# Altium footprint library PCB_soldeerstation.PcbLib: 39 footprints (part 1 of 3)
Each footprint in its own frame and in the unit in brackets; x right, y up, seen from the top. Pads: shape width x height; smd on the part's side, far side on the other; paste and mask are expansions set on the pad; w line width, h text height; cw(c..) or ccw(c..) is an arc to the next point about the centre after c.
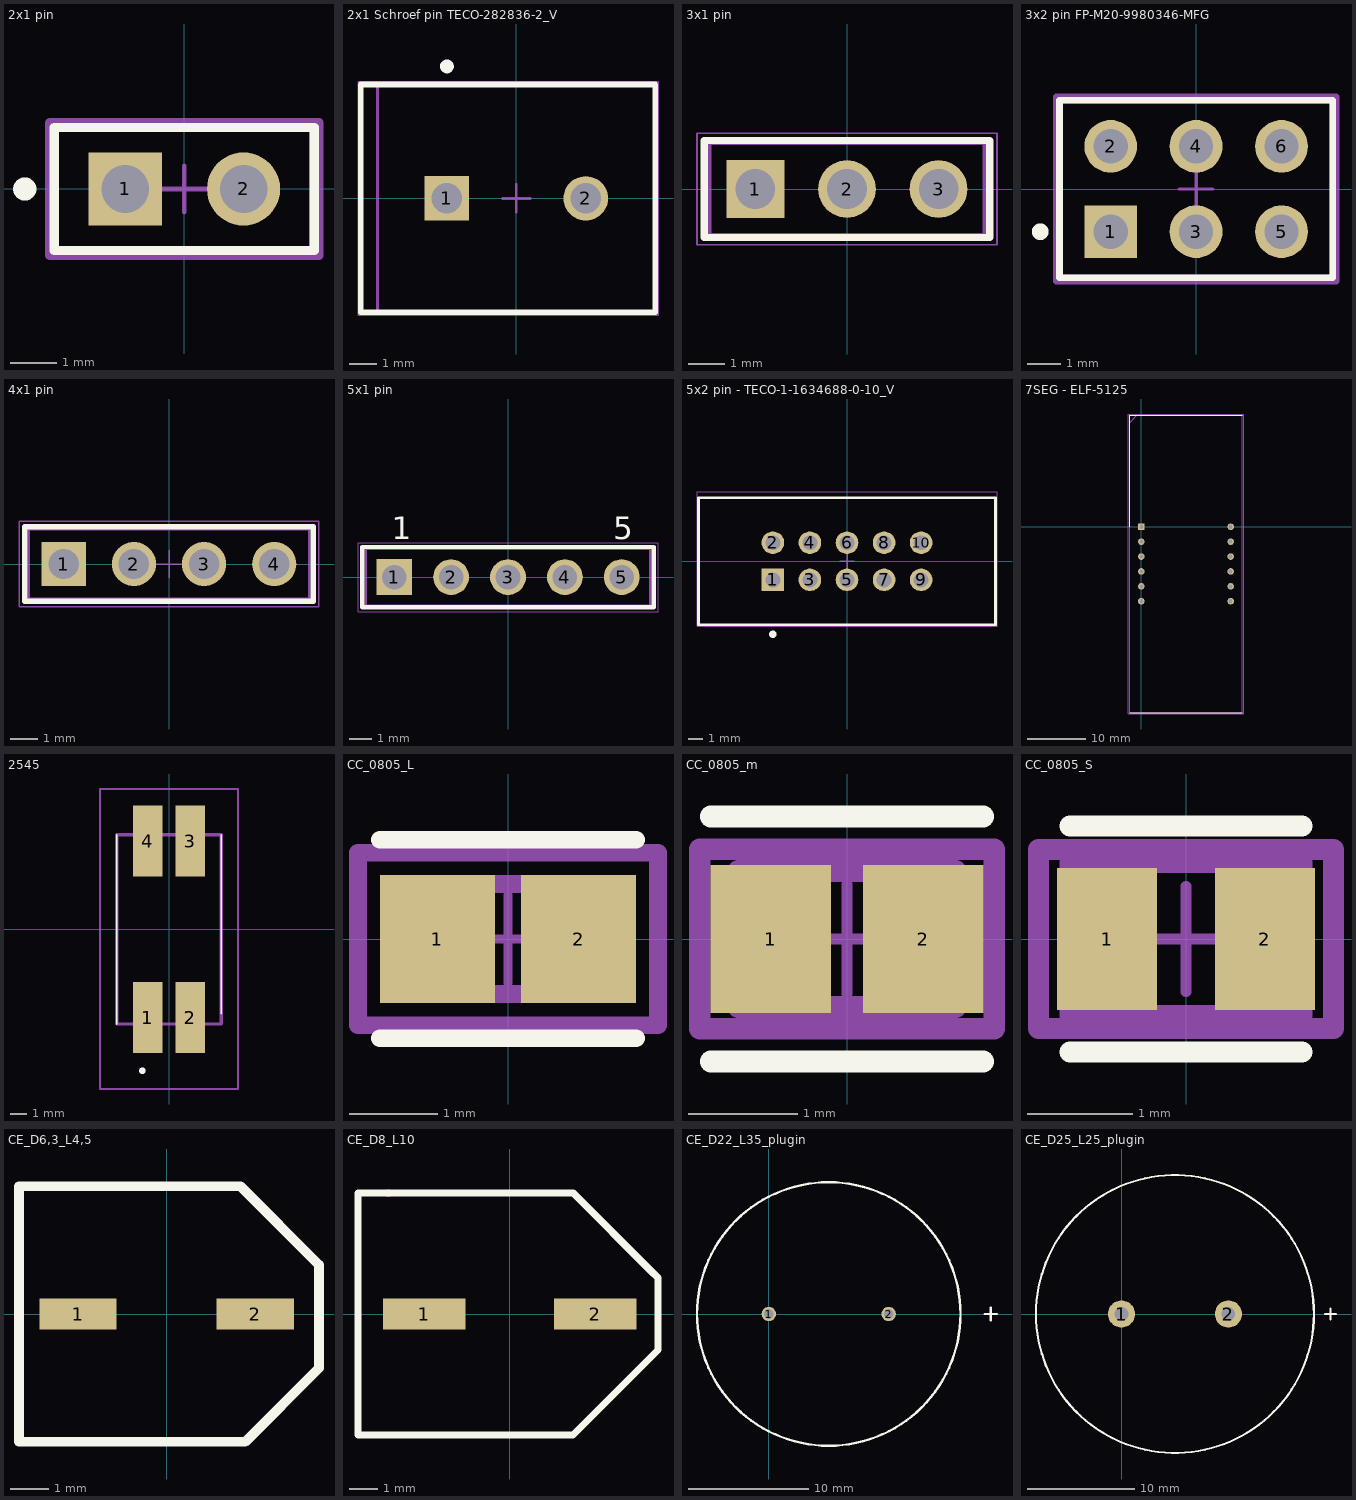
[diagram p0: the footprints below, top view; thin cyan lines are the x and y axes]

## 2x1 pin [mm]
pads (2):
  rect 1.57x1.57 hole 1.02 paste-1000 mask+0: 1(-1.27,0)
  round 1.57 hole 1.02 paste-1000 mask+0: 2(1.27,0)
Top Overlay:
  circle w0.25: c-3.425,0 r0.125
  lines w0.2: -2.79,-1.32 2.79,-1.32 2.79,1.32 -2.79,1.32 -2.79,-1.32
Top 3D Body:
  lines w0.2: -2.79,-1.32 2.79,-1.32 2.79,1.32 -2.79,1.32 -2.79,-1.32
Top Courtyard:
  lines w0.2: -2.89,-1.42 2.89,-1.42 2.89,1.42 -2.89,1.42 -2.89,-1.42
Top Assembly:
  lines w0.2: -2.89,-1.42 2.89,-1.42 2.89,1.42 -2.89,1.42 -2.89,-1.42
  text ".Designator" at 0,0.188 h1
Top Component Center:
  lines w0.1: -0.5,0 0.5,0 ; 0,-0.5 0,0.5
3D body "Conn_Harwin_M20-9990246_eec.STEP": height 0.25, standoff 0, extent -2.89,-1.42 2.89,1.42

## 2x1 Schroef pin TECO-282836-2_V [mm] "Female Header, Pitch 5mm, 1 x 2 Position, Height 10mm"
height 10
pads (2):
  rect 1.6x1.6 hole 1.1: 1(-2.5,0)
  round 1.6 hole 1.1: 2(2.5,0)
Top Overlay:
  circle w0.25: c-2.5,4.75 r0.125
  lines w0.2: -5.6,-4.1 -5.6,4.1 5,4.1 5,-4.1 -5.6,-4.1
Mechanical 13:
  lines w0.1: -5,-4.1 5,-4.1 5,4.1 -5,4.1 -5,-4.1
Mechanical 15:
  lines w0.05: -5.7,-4.2 5.1,-4.2 5.1,4.2 -5.7,4.2 -5.7,-4.2
  lines w0.1: -0.5,0 0.5,0 ; 0,-0.5 0,0.5
3D body "c-282836-2-h-3d.stp": height 10, standoff -3.5, extent -5.6,-4.1 5,4.1

## 3x1 pin [mm] "Pin Header, pitch 2.54 mm, THT, Vertical, single row, 3p"
height 8.54
pads (3):
  rect 1.6x1.6 hole 1.1: 1(-2.54,0)
  round 1.6 hole 1.1: 2(0,0) 3(2.54,0)
Top Overlay:
  lines w0.2: -3.96,-1.345 3.96,-1.345 3.96,1.345 -3.96,1.345 -3.96,-1.345
Mechanical 13:
  lines w0.1: -3.81,-1.27 -3.81,1.27 3.81,1.27 3.81,-1.27 -3.81,-1.27
Mechanical 15:
  lines w0.05: -0.5,0 0.5,0 ; 0,-0.5 0,0.5 ; -4.16,-1.545 -4.16,1.545 4.16,1.545 4.16,-1.545 -4.16,-1.545
3D body "61300311121.stp": height 8.57, standoff -2.97, extent -3.81,-1.27 3.81,1.27

## 3x2 pin FP-M20-9980346-MFG [mm]
pads (6):
  rect 1.57x1.57 hole 1.02 paste-1000 mask+0: 1(-2.54,-1.27)
  round 1.57 hole 1.02 paste-1000 mask+0: 2(-2.54,1.27) 3(0,-1.27) 4(0,1.27) 5(2.54,-1.27) 6(2.54,1.27)
Top Overlay:
  circle w0.25: c-4.635,-1.27 r0.125
  lines w0.2: -4.06,-2.64 -4.06,2.64 4.06,2.64 4.06,-2.64 -4.06,-2.64
Top 3D Body:
  lines w0.2: -4.06,-2.64 -4.06,2.64 4.06,2.64 4.06,-2.64 -4.06,-2.64
Top Courtyard:
  lines w0.2: -4.16,-2.74 -4.16,2.74 4.16,2.74 4.16,-2.74 -4.16,-2.74
Top Assembly:
  lines w0.2: -4.16,-2.74 -4.16,2.74 4.16,2.74 4.16,-2.74 -4.16,-2.74
  text ".Designator" at 0,0.188 h1
Top Component Center:
  lines w0.1: -0.5,0 0.5,0 ; 0,-0.5 0,0.5
3D body "Conn_Harwin_M20-9980346_eec.STEP": height 0.25, standoff 0, extent -4.16,-2.74 4.16,2.74

## 4x1 pin [mm] "Pin Header, pitch 2.54 mm, THT, Vertical, single row, 4p"
height 8.54
pads (4):
  rect 1.6x1.6 hole 1.1: 1(-3.81,0)
  round 1.6 hole 1.1: 2(-1.27,0) 3(1.27,0) 4(3.81,0)
Top Overlay:
  lines w0.2: -5.23,-1.345 -5.23,1.345 5.23,1.345 5.23,-1.345 -5.23,-1.345
Mechanical 13:
  lines w0.1: -5.08,-1.27 5.08,-1.27 5.08,1.27 -5.08,1.27 -5.08,-1.27
Mechanical 15:
  lines w0.05: -0.5,0 0.5,0 ; 0,-0.5 0,0.5 ; -5.43,-1.545 5.43,-1.545 5.43,1.545 -5.43,1.545 -5.43,-1.545
3D body "61300411121.stp": height 8.57, standoff -2.97, extent -5.08,-1.27 5.08,1.27

## 5x1 pin [mm] "Pin Header, pitch 2.54 mm, THT, Vertical, single row, 5p"
height 8.54
pads (5):
  rect 1.6x1.6 hole 1.1: 1(-5.08,0)
  round 1.6 hole 1.1: 2(-2.54,0) 3(0,0) 4(2.54,0) 5(5.08,0)
Top Overlay:
  lines w0.2: -6.5,-1.345 6.5,-1.345 6.5,1.345 -6.5,1.345 -6.5,-1.345
  text "1" at -5.2,1.7 h1.02
  text "5" at 4.7,1.7 h1.02
Mechanical 13:
  lines w0.1: -6.35,-1.27 -6.35,1.27 6.35,1.27 6.35,-1.27 -6.35,-1.27
Mechanical 15:
  lines w0.05: -0.5,0 0.5,0 ; 0,-0.5 0,0.5 ; -6.7,-1.545 -6.7,1.545 6.7,1.545 6.7,-1.545 -6.7,-1.545
3D body "61300511121.stp": height 8.57, standoff -2.97, extent -6.35,-1.27 6.35,1.27

## 5x2 pin - TECO-1-1634688-0-10_V [mm] "10-Pin Connector, Body 20.35x8.7mm, Pitch 2.54mm"
height 9.15
pads (10):
  rect 1.55x1.55 hole 1.02: 1(-5.08,-1.27)
  round 1.55 hole 1.02: 2(-5.08,1.27) 3(-2.54,-1.27) 4(-2.54,1.27) 5(0,-1.27) 6(0,1.27) 7(2.54,-1.27) 8(2.54,1.27) 9(5.08,-1.27) 10(5.08,1.27)
Top Overlay:
  circle w0.25: c-5.08,-5 r0.125
  lines w0.2: -10.175,-4.35 -10.175,4.35 10.175,4.35 10.175,-4.35 -10.175,-4.35
Mechanical 13:
  lines w0.1: -10.175,-4.35 -10.175,4.35 10.175,4.35 10.175,-4.35 -10.175,-4.35
Mechanical 15:
  lines w0.05: -10.275,-4.45 -10.275,4.75 10.275,4.75 10.275,-4.45 -10.275,-4.45
  lines w0.1: -0.5,0 0.5,0 ; 0,-0.5 0,0.5
3D body "c-1634688-10-c-3d.stp": height 9, standoff -3.15, extent -10.175,-4.35 10.175,4.65

## 7SEG - ELF-5125 [mm]
pads (12):
  rect 1.1x1.1 hole 0.7: 1(0,0)
  round 1.1 hole 0.7: 2(0,-2.54) 3(0,-5.08) 4(0,-7.62) 5(0,-10.16) 6(0,-12.7) 7(15.24,-12.7) 8(15.24,-10.16) 9(15.24,-7.62) 10(15.24,-5.08) 11(15.24,-2.54) 12(15.24,0)
Top Overlay:
  lines w0.2: -2.005,-31.675 17.245,-31.675 ; -2.005,0 -2.005,18.975 17.245,18.975
Mechanical 13:
  lines w0.1: -2.005,17.705 -0.735,18.975 ; -2.005,-31.675 -2.005,18.975 17.245,18.975 17.245,-31.675 -2.005,-31.675
Mechanical 15:
  lines w0.05: -2.255,-31.925 -2.255,19.225 17.495,19.225 17.495,-31.925 -2.255,-31.925

## 2545 [mm]
pads (4):
  rect 1.78x4.27 smd: 1(-1.27,-5.305) 2(1.27,-5.305) 3(1.27,5.305) 4(-1.27,5.305)
Top Overlay:
  lines w0.1: -3.15,-5.69 -3.15,5.69 ; 3.15,-5.08 3.15,5.69
  lines w0.2: -1.7,-8.5 ccw(c-1.6,-8.5) -1.5,-8.5 ccw(c-1.6,-8.5) -1.7,-8.5
Mechanical 13:
  lines w0.2: -3.15,-5.69 -3.15,5.69 3.15,5.69 3.15,-5.69 -3.15,-5.69
Mechanical 15:
  lines w0.1: -4.15,-9.6 -4.15,8.44 4.15,8.44 4.15,-9.6 -4.15,-9.6
3D body "CM2545X171R-10.stp": height 9.6, standoff 0, extent -3.15,-7.262 3.15,7.262

## CC_0805_L [mm]
pads (2):
  rect 1.305x1.456 smd paste+0 mask+0: 1(-0.801,0) 2(0.801,0)
Top Overlay:
  lines w0.2: -1.453,-1.128 1.453,-1.128 ; -1.453,1.128 1.453,1.128
Top 3D Body:
  lines w0.2: -1,-0.625 1,-0.625 1,0.625 -1,0.625 -1,-0.625
Top Courtyard:
  lines w0.2: -1.703,-0.978 1.703,-0.978 1.703,0.978 -1.703,0.978 -1.703,-0.978
Top Assembly:
  lines w0.2: -1.703,-0.978 1.703,-0.978 1.703,0.978 -1.703,0.978 -1.703,-0.978
  text ".Designator" at 0,0.188 h1
Top Component Center:
  lines w0.1: -0.5,0 0.5,0 ; 0,-0.5 0,0.5
3D body "Cap_KEMET_C0805C472J3HAC_eec.STEP": height 0.25, standoff 0, extent -1.703,-0.978 1.703,0.978

## CC_0805_m [mm]
pads (2):
  rect 1.105x1.356 smd paste+0 mask+0: 1(-0.701,0) 2(0.701,0)
Top Overlay:
  lines w0.2: -1.253,-1.125 1.253,-1.125 ; -1.253,1.125 1.253,1.125
Top 3D Body:
  lines w0.2: -1,-0.625 -1,0.625 1,0.625 1,-0.625 -1,-0.625
Top Courtyard:
  lines w0.2: -1.353,-0.825 -1.353,0.825 1.353,0.825 1.353,-0.825 -1.353,-0.825
Top Assembly:
  lines w0.2: -1.353,-0.825 -1.353,0.825 1.353,0.825 1.353,-0.825 -1.353,-0.825
  text ".Designator" at 0,0.188 h1
Top Component Center:
  lines w0.1: -0.5,0 0.5,0 ; 0,-0.5 0,0.5
3D body "Cap_KEMET_C0805C472J3HAC_eec.STEP": height 0.25, standoff 0, extent -1.353,-0.825 1.353,0.825

## CC_0805_S [mm]
pads (2):
  rect 0.95x1.35 smd paste+0 mask+0: 1(-0.75,0) 2(0.75,0)
Top Overlay:
  lines w0.2: -1.1,-1.075 1.1,-1.075 ; -1.1,1.075 1.1,1.075
Top 3D Body:
  lines w0.2: -1.1,-0.725 1.1,-0.725 1.1,0.725 -1.1,0.725 -1.1,-0.725
Top Courtyard:
  lines w0.2: -1.4,-0.85 1.4,-0.85 1.4,0.85 -1.4,0.85 -1.4,-0.85
Top Assembly:
  lines w0.2: -1.4,-0.85 1.4,-0.85 1.4,0.85 -1.4,0.85 -1.4,-0.85
  text ".Designator" at 0,0.188 h1
Top Component Center:
  lines w0.1: -0.5,0 0.5,0 ; 0,-0.5 0,0.5
3D body "Cap_KEMET_C0805C472J3HAC_eec.STEP": height 0.25, standoff 0, extent -1.4,-0.85 1.4,0.85

## CE_D6,3_L4,5 [mm]
pads (2):
  rect 2x0.8 smd: 1(-2.286,0) 2(2.286,0)
Top Overlay:
  lines w0.254: -3.81,-3.3 2.034,-3.3 3.937,-1.397 3.937,1.27 1.907,3.3 0,3.3 -3.3,3.3 -3.81,3.3 -3.81,0.51 -3.81,-3.3

## CE_D8_L10 [mm]
pads (2):
  rect 2.9x1.1 smd: 1(-3,0) 2(3,0)
Top Layer:
  lines w0.254: -4.259,4.25 -4.25,4.241
Top Overlay:
  lines w0.254: -5.334,-4.25 -5.334,4.25 2.227,4.25 4.953,1.524 5.207,1.27 5.207,-1.261 2.218,-4.25 -5.334,-4.25

## CE_D22_L35_plugin [mm]
pads (2):
  round 1.2 hole 0.8: 1(0,0) 2(10,0)
Top Overlay:
  circle w0.2: c5,0 r11
  lines w0.2: 18.032,0 19.048,0 ; 18.54,-0.508 18.54,0.508

## CE_D25_L25_plugin [mm]
pads (2):
  round 2.54 hole 1.27: 1(0,0) 2(10,0)
Top Overlay:
  circle w0.2: c5,0 r13
  lines w0.2: 19.05,0 20.066,0 ; 19.558,-0.508 19.558,0.508